# Altium footprint library Passives.PcbLib: 58 footprints (part 3 of 4)
Each footprint in its own frame and in the unit in brackets; x right, y up, seen from the top. Pads: shape width x height; smd on the part's side, far side on the other; paste and mask are expansions set on the pad; w line width, h text height; cw(c..) or ccw(c..) is an arc to the next point about the centre after c.
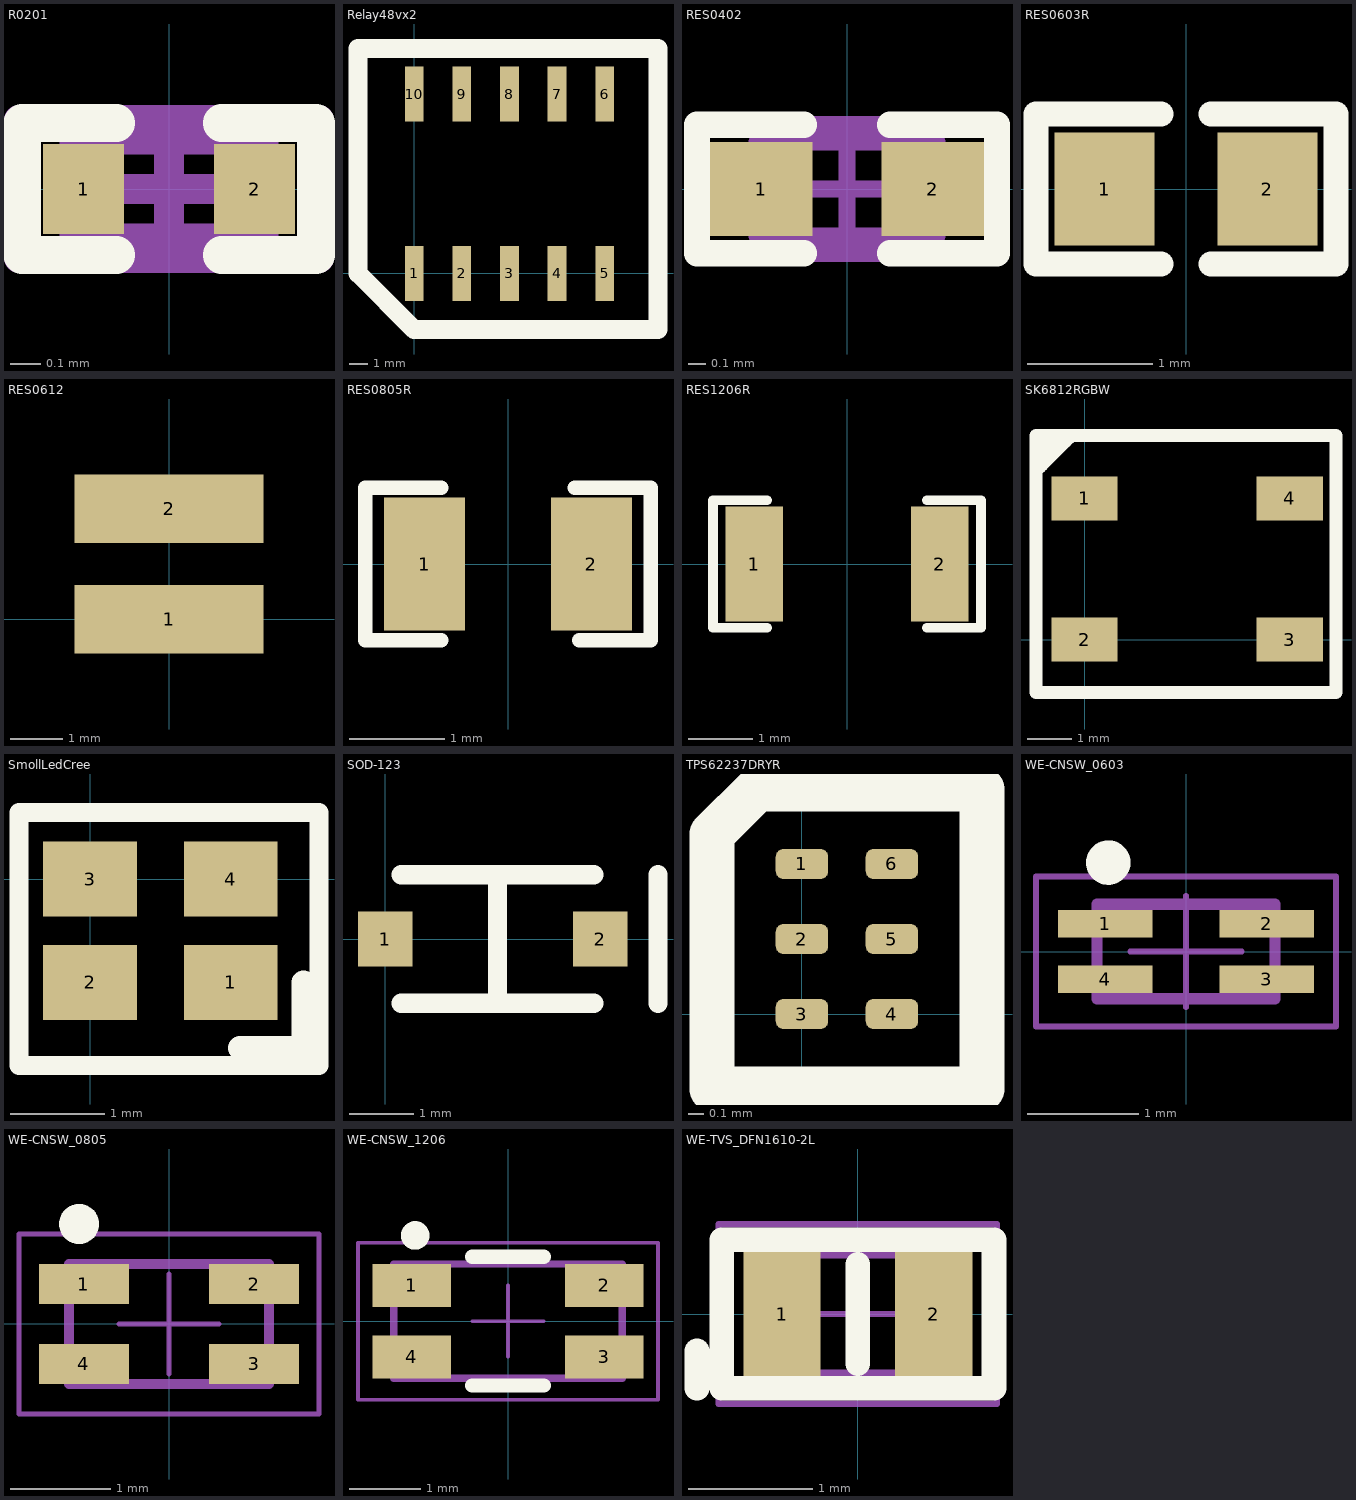
[diagram p2: the footprints below, top view; thin cyan lines are the x and y axes]

## R0201 [mm]
pads (2):
  rect 0.27x0.3 smd: 1(-0.285,0) 2(0.285,0)
Top Overlay:
  lines w0.125: -0.175,-0.22 -0.49,-0.22 -0.49,0.22 -0.175,0.22 ; 0.175,-0.22 0.49,-0.22 0.49,0.22 0.175,0.22
Mechanical 7:
  lines w0.1: -0.315,-0.165 -0.315,0.165 0.315,0.165 0.315,-0.165 -0.315,-0.165
  text ".Designator" at -0.508,-0.127 h0.3
Mechanical 15:
  lines w0.1: -0.165,0 0.165,0 ; 0,-0.165 0,0.165 ; -0.5,-0.23 -0.5,0.23 0.5,0.23 0.5,-0.23 -0.5,-0.23
3D body "User Library-res0201-1.step": height 0.23, standoff 0, extent -0.3,-0.15 0.3,0.15

## Relay48vx2 [mm] "Panasonic"
pads (10):
  rect 1x2.94 smd: 1(0,0) 2(2.54,0) 3(5.08,0) 4(7.62,0) 5(10.16,0) 6(10.16,9.56) 7(7.62,9.56) 8(5.08,9.56) 9(2.54,9.56) 10(0,9.56)
Top Overlay:
  lines w1: -3,0 -3,12 13,12 13,-3 0,-3 -3,0
3D body: height 5.6, standoff 0, extent -2,0 12,10

## RES0402 [mm]
pads (2):
  rect 0.6x0.55 smd: 1(-0.5,0) 2(0.5,0)
Top Overlay:
  lines w0.152: -0.25,-0.375 -0.875,-0.375 -0.875,0.375 -0.25,0.375 ; 0.25,-0.375 0.875,-0.375 0.875,0.375 0.25,0.375
Mechanical 7:
  lines w0.1: -0.525,-0.275 -0.525,0.275 0.525,0.275 0.525,-0.275 -0.525,-0.275
  text ".Designator" at -0.432,-0.152 h0.3
Mechanical 15:
  lines w0.1: -0.275,0 0.275,0 ; 0,-0.275 0,0.275 ; -0.875,-0.375 0.875,-0.375 0.875,0.375 -0.875,0.375 -0.875,-0.375
3D body "User Library-res0402-1.step": height 0.3, standoff 0, extent -0.5,-0.25 0.5,0.25

## RES0603R [mm] "resistor 0603 reflow soldering"
pads (2):
  rect 0.8x0.9 smd: 1(-0.65,0) 2(0.65,0)
Top Overlay:
  lines w0.2: -0.2,-0.6 -1.2,-0.6 -1.2,0.6 -0.2,0.6 ; 0.2,-0.6 1.2,-0.6 1.2,0.6 0.2,0.6
Mechanical 7:
  text ".Designator" at -0.508,-0.127 h0.3
3D body "res0603.stp": height 0.45, standoff 0, extent -0.8,-0.4 0.8,0.4

## RES0612 [mm] "1206 Wide (inverted)"
pads (2):
  rect 3.6x1.3 smd: 1(0,0) 2(0,2.1)
Mechanical 7:
  text ".Designator" at -1.524,0.889 h0.3
3D body "CSRF0612_stp.stp": height 0.61, standoff 0.01, extent -1.602,0.242 1.598,1.842

## RES0805R [mm] "resistor 0805 reflow soldering"
pads (2):
  rect 0.85x1.4 smd: 1(-0.875,0) 2(0.875,0)
Top Overlay:
  lines w0.152: -0.7,-0.8 -1.5,-0.8 -1.5,0.8 -0.7,0.8 ; 0.7,0.8 1.5,0.8 1.5,-0.8 0.75,-0.8
Mechanical 7:
  text ".Designator" at -0.508,-0.127 h0.3
3D body "RES0805.stp": height 0.5, standoff 0, extent -1,-0.625 1,0.625

## RES1206R [mm]
pads (2):
  rect 0.9x1.8 smd: 1(-1.45,0) 2(1.45,0)
Top Overlay:
  lines w0.152: -1.25,-1 -2.1,-1 -2.1,1 -1.25,1 ; 1.25,-1 2.1,-1 2.1,1 1.25,1
Mechanical 7:
  text ".Designator" at -0.508,-0.127 h0.3
3D body "RES1206.stp": height 0.55, standoff 0, extent -1.5,-0.775 1.6,0.777

## RESMELF0204 [mm]
Mechanical 7:
  text ".Designator" at -0.508,-0.127 h0.3
3D body "RESMELF-0204.stp": height 1.39, standoff 0, extent -1.8,-0.698 1.8,0.699

## SK6812RGBW [mm]
pads (4):
  rect 1.5x1 smd: 1(0,3.2) 2(0,0) 3(4.65,0) 4(4.65,3.2)
Top Overlay:
  lines w0.3: -1.016,3.912 -0.432,4.496 ; -0.965,3.962 -0.965,4.343 -0.813,4.496 -0.432,4.496 ; -0.229,4.623 -0.305,4.623 ; -0.432,4.496 -0.305,4.623 ; -0.305,4.623 -0.152,4.623 ; -0.152,4.623 5.7,4.623 5.7,-1.2 -1.1,-1.2 -1.1,4.623 -0.152,4.623
3D body "5050LED.STEP": height 1.4, standoff -0.15, extent -0.45,-1 5.05,4

## SmollLedCree [mm] "CLMVC-FKA"
pads (4):
  rect 1x0.8 smd: 1(1.5,-1.1) 2(0,-1.1) 3(0,0) 4(1.5,0)
Top Overlay:
  lines w0.2: -0.758,-1.989 2.442,-1.989 2.442,0.711 -0.758,0.711 -0.758,-1.989
  lines w0.254: 1.6,-1.8 2.275,-1.8 2.275,-1.1
3D body "CLMVC-FKA-CL1D1L71BB7C3C3--3DModel-STEP-56544.STEP": height 1, standoff 0, extent -0.25,-1.55 1.75,0.45

## SOD-123 [mm] "Diode"
pads (2):
  rect 0.85x0.85 smd: 1(0,0) 2(3.35,0)
Top Overlay:
  lines w0.3: 0.25,-1 3.25,-1 ; 0.25,1 3.25,1 ; 1.75,-1 1.75,1 ; 4.25,-1 4.25,1
3D body "sod123 v4.step": height 1.2, standoff 0, extent -0.125,-0.85 3.625,0.85

## TPS62237DRYR [mm] "TPS62237DRYR"
pads (6):
  rrect50% 0.35x0.2 smd: 1(0,1) 2(0,0.5) 3(0,0) 4(0.6,0) 5(0.6,0.5) 6(0.6,1)
Top Overlay:
  lines w0.3: -0.6,-0.5 1.2,-0.5 1.2,1.5 -0.3,1.5 -0.6,1.2 -0.6,-0.5
3D body: height 0.6, standoff 0, extent -0.3,-0.25 0.9,1.25

## WE-CNSW_0603 [mm] "SMT Common Mode Line Filter, 4-leads, body 1.6x0.85mm"
height 1.2
pads (4):
  rect 0.85x0.25 smd: 1(-0.725,0.25) 2(0.725,0.25) 3(0.725,-0.25) 4(-0.725,-0.25)
Top Overlay:
  circle w0.2: c-0.7,0.8 r0.1
Mechanical 13:
  lines w0.1: -0.8,-0.425 0.8,-0.425 0.8,0.425 -0.8,0.425 -0.8,-0.425
Mechanical 15:
  lines w0.05: -0.5,0 0.5,0 ; 0,-0.5 0,0.5 ; -1.35,-0.675 1.35,-0.675 1.35,0.675 -1.35,0.675 -1.35,-0.675
3D body "0603_744230xxx.stp": height 1.09, standoff -0.01, extent -0.8,-0.425 0.8,0.425

## WE-CNSW_0805 [mm] "SMT Common Mode Line Filter, 4-leads, body 2x1.2mm"
height 1.4
pads (4):
  rect 0.9x0.4 smd: 1(-0.85,0.4) 2(0.85,0.4) 3(0.85,-0.4) 4(-0.85,-0.4)
Top Overlay:
  circle w0.2: c-0.9,1 r0.1
Mechanical 13:
  lines w0.1: -1,-0.6 1,-0.6 1,0.6 -1,0.6 -1,-0.6
Mechanical 15:
  lines w0.05: -0.5,0 0.5,0 ; 0,-0.5 0,0.5 ; -1.5,-0.9 -1.5,0.9 1.5,0.9 1.5,-0.9 -1.5,-0.9
3D body "744231xxx.stp": height 1.19, standoff -0.01, extent -1,-0.6 1,0.6

## WE-CNSW_1206 [mm] "SMT Common Mode Line Filter, 4-leads, body 3.2x1.6mm"
height 2
pads (4):
  rect 1.1x0.6 smd: 1(-1.35,0.5) 2(1.35,0.5) 3(1.35,-0.5) 4(-1.35,-0.5)
Top Overlay:
  circle w0.2: c-1.3,1.2 r0.1
  lines w0.2: -0.5,-0.9 0.5,-0.9 ; -0.5,0.9 0.5,0.9
Mechanical 13:
  lines w0.1: -1.6,-0.8 -1.6,0.8 1.6,0.8 1.6,-0.8 -1.6,-0.8
Mechanical 15:
  lines w0.05: -0.5,0 0.5,0 ; 0,-0.5 0,0.5 ; -2.1,-1.1 2.1,-1.1 2.1,1.1 -2.1,1.1 -2.1,-1.1
3D body "744232xxx.stp": height 1.79, standoff -0.01, extent -1.6,-0.8 1.6,0.8

## WE-TVS_DFN1610-2L [mm] "TVS Diode, package DFN1610-2L"
height 0.55
pads (2):
  rect 0.625x1 smd: 1(-0.613,0) 2(0.613,0)
Top Overlay:
  lines w0.2: -1.3,-0.6 -1.3,-0.3 ; 0,-0.4 0,0.4 ; -1.1,-0.6 -1.1,0.6 1.1,0.6 1.1,-0.6 -1.1,-0.6
Mechanical 13:
  circle w0.15: c-0.5,-0.2 r0.075
  lines w0.1: 0.8,-0.5 -0.8,-0.5 -0.8,0.5 0.8,0.5 0.8,-0.5
Mechanical 15:
  lines w0.05: -0.5,0 0.5,0 ; 0,-0.5 0,0.5 ; -1.125,-0.725 1.125,-0.725 1.125,0.725 -1.125,0.725 -1.125,-0.725
3D body "STEP-WE-TVS-DFN1610-2L-rev1.stp": height 0.51, standoff 0, extent -0.8,-0.5 0.8,0.5